# Altium integrated library WE-SL3_rev15a.intlib: 6 symbols
Pins are listed as number, name and electrical type; pins without a type are passive.

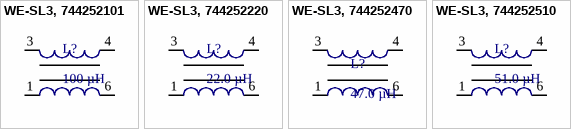
[diagram p0: symbols WE-SL3, 744252101 to WE-SL3, 744252510]

## WE-SL3, 744252101
designator L?, comment 100 µH
SMD Common Mode Line Filter WE-SL3, L=100 µH; partNo: 744252101; Manufacturer: Würth Elektronik eiSos GmbH; Inductance: 100 µH; ComponentLink1Description: Manufacturer; ComponentLink1URL: http://www.we-online.de; Created by: Christin Zierenner; Created Date: November 2009; ComponentLink2Description: Datasheet; ComponentLink2URL: http://www.we-online.de/katalog/media/pdf/744252101.pdf
footprint WE-SL3, 744252x (SMD Inductor, 4-Leads, Body 6,6x9,2mm)
pins: 1, 3, 4, 6

## WE-SL3, 744252220
designator L?, comment 22.0 µH
SMD Common Mode Line Filter WE-SL3, L=22.0 µH; partNo: 744252220; Manufacturer: Würth Elektronik eiSos GmbH; Inductance: 22.0 µH; ComponentLink1Description: Manufacturer; ComponentLink1URL: http://www.we-online.de; Created by: Christin Zierenner; Created Date: November 2009; ComponentLink2Description: Datasheet; ComponentLink2URL: http://www.we-online.de/katalog/media/pdf/744252220.pdf
footprint WE-SL3, 744252x (SMD Inductor, 4-Leads, Body 6,6x9,2mm)
pins: 1, 3, 4, 6

## WE-SL3, 744252470
designator L?, comment 47.0 µH
SMD Common Mode Line Filter WE-SL3, L=47.0 µH; partNo: 744252470; Manufacturer: Würth Elektronik eiSos GmbH; Inductance: 47.0 µH; ComponentLink1Description: Manufacturer; ComponentLink1URL: http://www.we-online.de; Created by: Christin Zierenner; Created Date: November 2009; ComponentLink2Description: Datasheet; ComponentLink2URL: http://www.we-online.de/katalog/media/pdf/744252470.pdf
footprint WE-SL3, 744252x (SMD Inductor, 4-Leads, Body 6,6x9,2mm)
pins: 1, 3, 4, 6

## WE-SL3, 744252510
designator L?, comment 51.0 µH
SMD Common Mode Line Filter WE-SL3, L=51.0 µH; partNo: 744252510; Manufacturer: Würth Elektronik eiSos GmbH; Inductance: 51.0 µH; ComponentLink1Description: Manufacturer; ComponentLink1URL: http://www.we-online.de; Created by: Christin Zierenner; Created Date: November 2009; ComponentLink2Description: Datasheet; ComponentLink2URL: http://www.we-online.de/katalog/media/pdf/744252510.pdf
footprint WE-SL3, 744252x (SMD Inductor, 4-Leads, Body 6,6x9,2mm)
pins: 1, 3, 4, 6


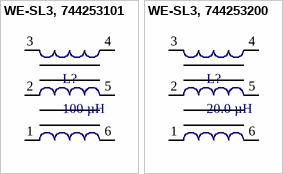
[diagram p1: symbols WE-SL3, 744253101 to WE-SL3, 744253200]

## WE-SL3, 744253101
designator L?, comment 100 µH
SMD Common Mode Line Filter WE-SL3, L=100 µH; partNo: 744253101; Manufacturer: Würth Elektronik eiSos GmbH; Inductance: 100 µH; ComponentLink1Description: Manufacturer; ComponentLink1URL: http://www.we-online.de; Created by: Christin Zierenner; Created Date: November 2009; ComponentLink2Description: Datasheet; ComponentLink2URL: http://www.we-online.de/katalog/media/pdf/744253101.pdf
footprint WE-SL3, 744253x (SMD Inductor, 6-Leads, Body 6,6x9,2mm)
pins: 1, 2, 3, 4, 5, 6

## WE-SL3, 744253200
designator L?, comment 20.0 µH
SMD Common Mode Line Filter WE-SL3, L=20.0 µH; partNo: 744253200; Manufacturer: Würth Elektronik eiSos GmbH; Inductance: 20.0 µH; ComponentLink1Description: Manufacturer; ComponentLink1URL: http://www.we-online.de; Created by: Christin Zierenner; Created Date: November 2009; ComponentLink2Description: Datasheet; ComponentLink2URL: http://www.we-online.de/katalog/media/pdf/744253200.pdf
footprint WE-SL3, 744253x (SMD Inductor, 6-Leads, Body 6,6x9,2mm)
pins: 1, 2, 3, 4, 5, 6